# Altium footprint library STEF01FTR.PcbLib: 1 footprints
Each footprint in its own frame and in the unit in brackets; x right, y up, seen from the top. Pads: shape width x height; smd on the part's side, far side on the other; paste and mask are expansions set on the pad; w line width, h text height; cw(c..) or ccw(c..) is an arc to the next point about the centre after c.
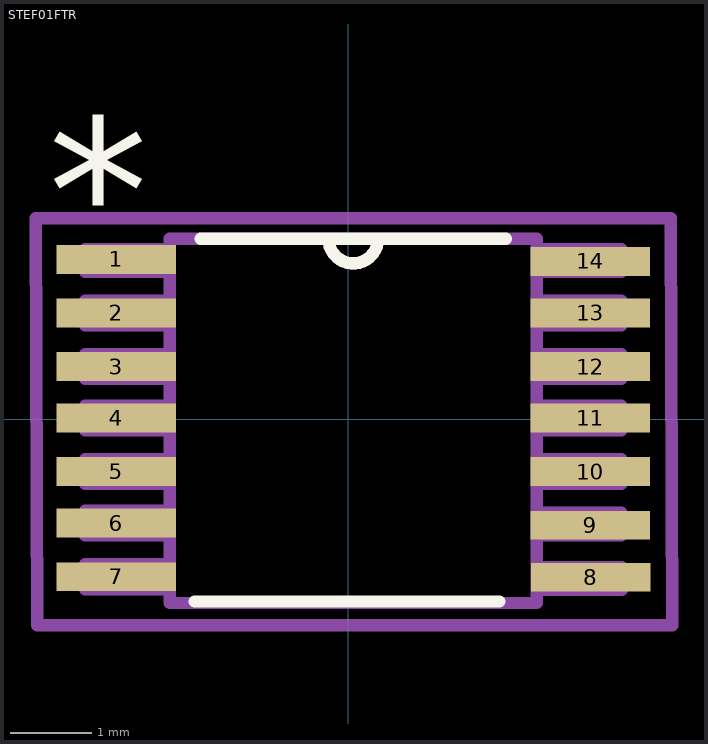
[diagram p0: the footprint, top view; thin cyan lines are the x and y axes]

## STEF01FTR [mil]
pads (14):
  rect 58x14 smd: 1(-112.5,77.5) 2(-112.5,51.5) 3(-112.5,25.5) 4(-112.5,0.5) 5(-112.5,-25.5) 6(-112.5,-50.5) 7(-112.5,-76.5) 8(117.75,-76.75) 9(117.5,-51.5) 10(117.5,-25.5) 11(117.5,0.5) 12(117.5,25.5) 13(117.5,51.5) 14(117.5,76.5)
Top Overlay:
  lines w6: -74.5,-88.5 73.5,-88.5 ; -71.5,87.5 -9.5,87.5 ; 76.5,87.5 14.5,87.5 ; -9.5,87.5 ccw(c2.5,87.5) 14.5,87.5 ; -9.5,87.5 14.5,87.5
  text "*" at -145.5,75.66 h73.82
Mechanical 4:
  lines w6: -127.5,-82.5 -86.5,-82.5 ; -127.5,-82.5 -127.5,-70.5 ; -127.5,-82.5 -86.5,-82.5 ; -127.5,-82.5 -127.5,-70.5 ; -127.5,-70.5 -86.5,-70.5 ; -127.5,-70.5 -86.5,-70.5 ; -127.5,-56.5 -86.5,-56.5 ; -127.5,-56.5 -127.5,-44.5 ; -127.5,-56.5 -86.5,-56.5 ; -127.5,-56.5 -127.5,-44.5 ; -127.5,-44.5 -86.5,-44.5 ; -127.5,-44.5 -86.5,-44.5 ; -127.5,-31.5 -86.5,-31.5 ; -127.5,-31.5 -127.5,-19.5 ; -127.5,-31.5 -86.5,-31.5 ; -127.5,-31.5 -127.5,-19.5 ; -127.5,-19.5 -86.5,-19.5 ; -127.5,-19.5 -86.5,-19.5 ; -127.5,-5.5 -86.5,-5.5 ; -127.5,-5.5 -127.5,6.5 ; -127.5,-5.5 -86.5,-5.5 ; -127.5,-5.5 -127.5,6.5 ; -127.5,6.5 -86.5,6.5 ; -127.5,6.5 -86.5,6.5 ; -127.5,19.5 -86.5,19.5 ; -127.5,19.5 -127.5,31.5 ; -127.5,19.5 -86.5,19.5 ; -127.5,19.5 -127.5,31.5 ; -127.5,31.5 -86.5,31.5 ; -127.5,31.5 -86.5,31.5 ; -127.5,45.5 -86.5,45.5 ; -127.5,45.5 -127.5,57.5 ; -127.5,45.5 -86.5,45.5 ; -127.5,45.5 -127.5,57.5 ; -127.5,57.5 -86.5,57.5 ; -127.5,57.5 -86.5,57.5 ; -127.5,71.5 -86.5,71.5 ; -127.5,71.5 -127.5,82.5 ; -127.5,71.5 -86.5,71.5 ; -127.5,71.5 -127.5,82.5 ; -127.5,82.5 -86.5,82.5 ; -127.5,82.5 -86.5,82.5 ; -86.5,-89.25 -86.5,87.5 ; -86.5,-89.25 91.5,-89.25 ; -86.5,-89.25 -86.5,87.5 ; -86.5,-89.25 91.5,-89.25 ; -86.5,-82.5 -86.5,-70.5 ; -86.5,-82.5 -86.5,-70.5 ; -86.5,-56.5 -86.5,-44.5 ; -86.5,-56.5 -86.5,-44.5 ; -86.5,-31.5 -86.5,-19.5 ; -86.5,-31.5 -86.5,-19.5 ; -86.5,-5.5 -86.5,6.5 ; -86.5,-5.5 -86.5,6.5 ; -86.5,19.5 -86.5,31.5 ; -86.5,19.5 -86.5,31.5 ; -86.5,45.5 -86.5,57.5 ; -86.5,45.5 -86.5,57.5 ; -86.5,71.5 -86.5,82.5 ; -86.5,71.5 -86.5,82.5 ; -86.5,87.5 -9.5,87.5 ; -86.5,87.5 -9.5,87.5 ; -9.5,87.5 ccw(c2.5,87.5) 14.5,87.5 ; -9.5,87.5 ccw(c2.5,87.5) 14.5,87.5 ; -9.5,87.5 14.5,87.5 ; -9.5,87.5 14.5,87.5 ; 14.5,87.5 91.5,87.5 ; 14.5,87.5 91.5,87.5 ; 91.5,-89.25 91.5,87.5 ; 91.5,-89.25 91.5,87.5 ; 91.5,-56.5 132.5,-56.5 ; 91.5,-56.5 91.5,-45.5 ; 91.5,-56.5 132.5,-56.5 ; 91.5,-56.5 91.5,-45.5 ; 91.5,-45.5 132.5,-45.5 ; 91.5,-45.5 132.5,-45.5 ; 91.5,-31.5 132.5,-31.5 ; 91.5,-31.5 91.5,-19.5 ; 91.5,-31.5 132.5,-31.5 ; 91.5,-31.5 91.5,-19.5 ; 91.5,-19.5 132.5,-19.5 ; 91.5,-19.5 132.5,-19.5 ; 91.5,-5.5 132.5,-5.5 ; 91.5,-5.5 91.5,6.5 ; 91.5,-5.5 132.5,-5.5 ; 91.5,-5.5 91.5,6.5 ; 91.5,6.5 132.5,6.5 ; 91.5,6.5 132.5,6.5 ; 91.5,19.5 132.5,19.5 ; 91.5,19.5 91.5,31.5 ; 91.5,19.5 132.5,19.5 ; 91.5,19.5 91.5,31.5 ; 91.5,31.5 132.5,31.5 ; 91.5,31.5 132.5,31.5 ; 91.5,45.5 132.5,45.5 ; 91.5,45.5 91.5,57.5 ; 91.5,45.5 132.5,45.5 ; 91.5,45.5 91.5,57.5 ; 91.5,57.5 132.5,57.5 ; 91.5,57.5 132.5,57.5 ; 91.5,71.5 132.5,71.5 ; 91.5,71.5 91.5,82.5 ; 91.5,71.5 91.5,70.5 91.5,71.5 ; 91.5,71.5 132.5,71.5 ; 91.5,71.5 91.5,82.5 ; 91.5,82.5 132.5,82.5 ; 91.5,82.5 132.5,82.5 ; 91.75,-82.75 132.75,-82.75 ; 91.75,-82.75 91.75,-71.75 ; 91.75,-82.75 132.75,-82.75 ; 91.75,-82.75 91.75,-71.75 ; 91.75,-71.75 132.75,-71.75 ; 91.75,-71.75 132.75,-71.75 ; 132.5,-56.5 132.5,-45.5 ; 132.5,-56.5 132.5,-45.5 ; 132.5,-31.5 132.5,-19.5 ; 132.5,-31.5 132.5,-19.5 ; 132.5,-5.5 132.5,6.5 ; 132.5,-5.5 132.5,6.5 ; 132.5,19.5 132.5,31.5 ; 132.5,19.5 132.5,31.5 ; 132.5,45.5 132.5,57.5 ; 132.5,45.5 132.5,57.5 ; 132.5,71.5 132.5,82.5 ; 132.5,71.5 132.5,82.5 ; 132.75,-82.75 132.75,-71.75 ; 132.75,-82.75 132.75,-71.75
  text "*" at -145.5,75.66 h73.82
  text "*" at -145.5,75.66 h73.82
Mechanical 16:
  lines w6: -151.5,97.5 156.5,97.5 157.25,-100 -150.75,-100 -151.5,97.5